# EAGLE library part SSOP48 (library LM4880)
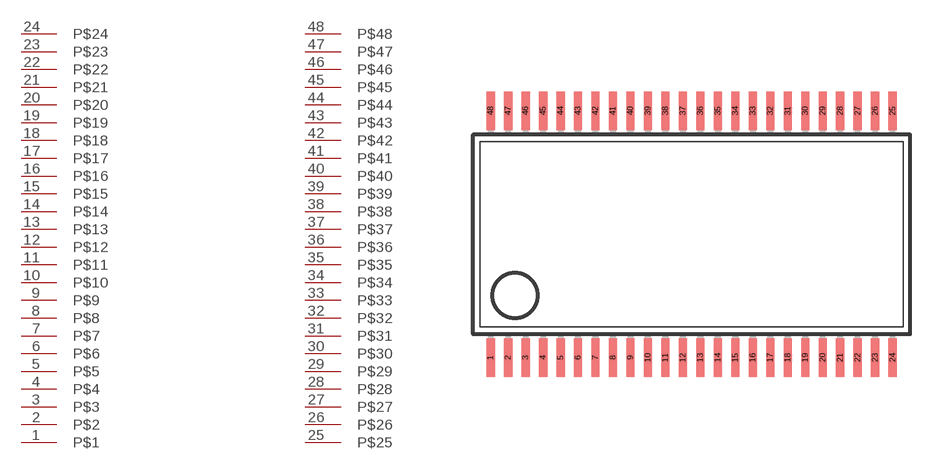
[diagram p0: symbol with the pads of SSOP48; footprint SSOP48]

Designator prefix -

## SSOP48  [SSOP48]
1  P$1
2  P$2
3  P$3
4  P$4
5  P$5
6  P$6
7  P$7
8  P$8
9  P$9
10  P$10
11  P$11
12  P$12
13  P$13
14  P$14
15  P$15
16  P$16
17  P$17
18  P$18
19  P$19
20  P$20
21  P$21
22  P$22
23  P$23
24  P$24
25  P$25
26  P$26
27  P$27
28  P$28
29  P$29
30  P$30
31  P$31
32  P$32
33  P$33
34  P$34
35  P$35
36  P$36
37  P$37
38  P$38
39  P$39
40  P$40
41  P$41
42  P$42
43  P$43
44  P$44
45  P$45
46  P$46
47  P$47
48  P$48

## Footprint SSOP48 (pad centres in mm)
smd 0.305 x 1.397: 1 0.318,0.597; 2 0.953,0.597; 3 1.587,0.597; 4 2.223,0.597; 5 2.857,0.597; 6 3.493,0.597; 7 4.128,0.597; 8 4.763,0.597; 9 5.397,0.597; 10 6.032,0.597; 11 6.668,0.597; 12 7.303,0.597; 13 7.938,0.597; 14 8.572,0.597; 15 9.207,0.597; 16 9.842,0.597; 17 10.477,0.597; 18 11.113,0.597; 19 11.748,0.597; 20 12.383,0.597; 21 13.018,0.597; 22 13.652,0.597; 23 14.287,0.597; 24 14.922,0.597; 25 14.922,9.563; 26 14.287,9.563; 27 13.652,9.563; 28 13.018,9.563; 29 12.383,9.563; 30 11.748,9.563; 31 11.113,9.563; 32 10.477,9.563; 33 9.842,9.563; 34 9.207,9.563; 35 8.572,9.563; 36 7.938,9.563; 37 7.303,9.563; 38 6.668,9.563; 39 6.032,9.563; 40 5.397,9.563; 41 4.763,9.563; 42 4.128,9.563; 43 3.493,9.563; 44 2.857,9.563; 45 2.223,9.563; 46 1.587,9.563; 47 0.953,9.563; 48 0.318,9.563